# Altium schematic symbol library Joystick.SchLib: 1 symbol
Pins are listed as number, name and electrical type; pins without a type are passive.

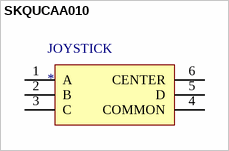
[diagram p0: symbol SKQUCAA010]

## SKQUCAA010
designator JOYSTICK
footprint 5-WAY-JOYSTICK
pins: 1 A, 2 B, 3 C, 4 COMMON, 5 D, 6 CENTER